# EAGLE library part BAR-LED (library ioshub)
BAR LED 10 ARRAYS
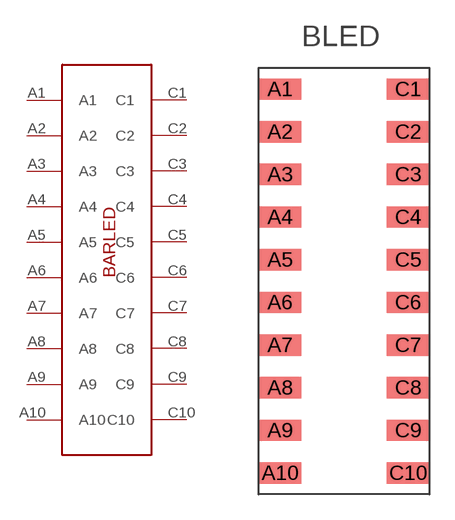
[diagram p5: symbol with the pads of BAR-LED; footprint BAR-LED]

Designator prefix -

## BAR-LED  [BAR-LED]
A1  A1
A2  A2
A3  A3
A4  A4
A5  A5
A6  A6
A7  A7
A8  A8
A9  A9
A10  A10
C1  C1
C2  C2
C3  C3
C4  C4
C5  C5
C6  C6
C7  C7
C8  C8
C9  C9
C10  C10

## Footprint BAR-LED (pad centres in mm)
BAR LED 10 ARRAY
smd 2.54 x 1.27: A1 -3.81,11.43; A2 -3.81,8.89; A3 -3.81,6.35; A4 -3.81,3.81; A5 -3.81,1.27; A6 -3.81,-1.27; A7 -3.81,-3.81; A8 -3.81,-6.35; A9 -3.81,-8.89; A10 -3.81,-11.43; C1 3.81,11.43; C2 3.81,8.89; C3 3.81,6.35; C4 3.81,3.81; C5 3.81,1.27; C6 3.81,-1.27; C7 3.81,-3.81; C8 3.81,-6.35; C9 3.81,-8.89; C10 3.81,-11.43